# Altium schematic symbol library RD15HVF1.SchLib: 1 symbol
Pins are listed as number, name and electrical type; pins without a type are passive.

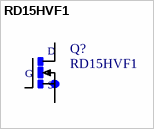
[diagram p0: symbol RD15HVF1]

## RD15HVF1
designator Q?
MF: Mitsubishi; Price: None; MP: RD15HVF1; Availability: Unavailable; SnapEDA_Link: https://www.snapeda.com/parts/RD15HVF1/Mitsubishi/view-part/2777222/?ref=snap; Package: None; Value: *
footprint *RD06HVF1
pins: 1 G, 2 S, 3 D